# Altium schematic symbol library lazer.SchLib: 1 symbol
Pins are listed as number, name and electrical type; pins without a type are passive.

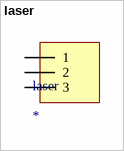
[diagram p0: symbol laser]

## laser
designator laser
footprint PCBComponent_1
pins: 1, 2, 3